# Altium schematic symbol library CON_2P.SchLib: 1 symbol
Pins are listed as number, name and electrical type; pins without a type are passive.

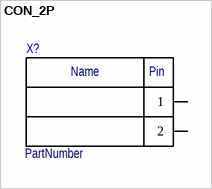
[diagram p0: symbol CON_2P]

## CON_2P
designator X?  (value not drawn)
Connector 2 pin; PartNumber: PartNumber
pins: 1, 2
text: Name; Pin